# Altium footprint library buck_pcb_lib.PcbLib: 5 footprints
Each footprint in its own frame and in the unit in brackets; x right, y up, seen from the top. Pads: shape width x height; smd on the part's side, far side on the other; paste and mask are expansions set on the pad; w line width, h text height; cw(c..) or ccw(c..) is an arc to the next point about the centre after c.
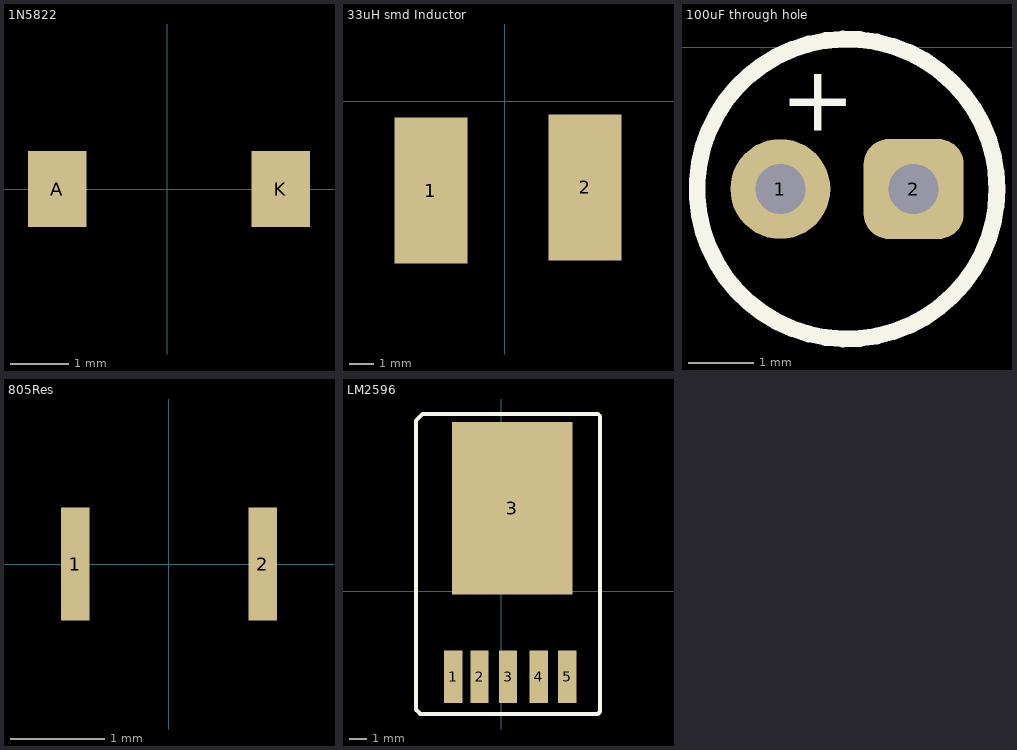
[diagram p0: the footprints below, top view; thin cyan lines are the x and y axes]

## 1N5822 [mm]
pads (2):
  rect 1x1.3 smd: A(-1.875,0) K(1.935,0)
3D body "sod123 v4.step": height 1.2, standoff 0, extent -1.875,-0.85 1.875,0.85

## 33uH smd Inductor [mil]
pads (2):
  rect 118.11x236.22 smd: 1(-120,-145) 2(130,-140)
3D body "SMD_Inductor_CD105.step": height 214.17, standoff -0.39, extent -186.85,-325 206.85,29.33

## 100uF through hole [mil]
pads (2):
  round 60 hole 30: 1(145,-85)
  rrect50% 60x60 hole 30: 2(225,-85)
Top Overlay:
  circle w10: c185,-85 r90
  text "+" at 145,-50 h39.37
3D body "EC 5x11 P2 D0.5.STEP": height 433.07, standoff -70.87, extent 86.57,-185 283.43,11.85

## 805Res [mm]
pads (2):
  rect 0.3x1.2 smd: 1(-1,0) 2(1,0)
3D body "Resistor_0805.step": height 0.51, standoff 0.01, extent -1,-0.625 1,0.625

## LM2596 [mm] "D2PAK"
pads (6):
  rect 1.06x3.05 smd: 1(-2.794,-4.953) 2(-1.27,-4.953) 3(0.381,-4.953) 4(2.159,-4.953) 5(3.81,-4.953)
  rect 7x10 smd: 3(0.635,4.826)
Top Overlay:
  lines w0.254: 5.588,10.287 -4.572,10.287 -4.953,9.906 -4.953,-6.858 -4.699,-7.112 5.588,-7.112 5.715,-6.985 5.715,10.16
3D body "TO263-5-1.stp": height 4.22, standoff 0, extent -4.445,-5.334 5.377,9.268